# EAGLE library part LM66200DRLR (library LM66200)
The LM66200 is a dual ideal diode device with a voltage rating of 1.6 V to 5.5 V and a maximum current rating of 2.5 A per channel
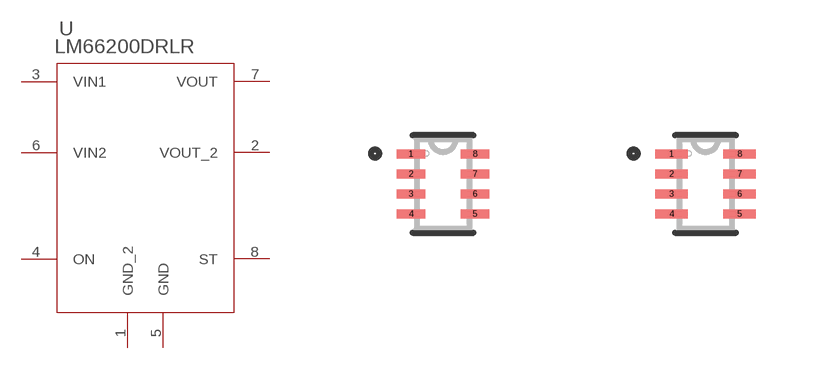
[diagram p0: symbol with the pads of SOT-5X3_DRL_TEX; footprints SOT-5X3_DRL_TEX, SOT-5X3_DRL_TEX-M]

Designator prefix U

## LM66200DRLR (COPYRIGHT: Copyright (C) 2023 Ultra Librarian. All rights reserved.; MANUFACTURER_PART_NUMBER: LM66200DRLR; MFR_NAME: Texas Instruments)  [SOT-5X3_DRL_TEX]
1  GND_2  pas
2  VOUT_2  pwr
3  VIN1  in
4  ON  in
5  GND  pas
6  VIN2  in
7  VOUT  out
8  ST  out

## LM66200DRLRSOT-5X3_DRL_TEX-M (COPYRIGHT: Copyright (C) 2023 Ultra Librarian. All rights reserved.; MANUFACTURER_PART_NUMBER: LM66200DRLR; MFR_NAME: Texas Instruments)  [SOT-5X3_DRL_TEX-M]
Pads as for SOT-5X3_DRL_TEX

## LM66200DRLRSOT-5X3_DRL_TEX-L (COPYRIGHT: Copyright (C) 2023 Ultra Librarian. All rights reserved.; MANUFACTURER_PART_NUMBER: LM66200DRLR; MFR_NAME: Texas Instruments)  [SOT-5X3_DRL_TEX-L]
Pads as for SOT-5X3_DRL_TEX

## Footprint SOT-5X3_DRL_TEX (pad centres in mm)
smd 0.711 x 0.229: 1 -0.8,0.75; 2 -0.8,0.25; 3 -0.8,-0.25; 4 -0.8,-0.75; 5 0.8,-0.75; 6 0.8,-0.25; 7 0.8,0.25; 8 0.8,0.75

## Footprint SOT-5X3_DRL_TEX-M (pad centres in mm)
smd 0.813 x 0.229: 1 -0.851,0.75; 2 -0.851,0.25; 3 -0.851,-0.25; 4 -0.851,-0.75; 5 0.851,-0.75; 6 0.851,-0.25; 7 0.851,0.25; 8 0.851,0.75

## Footprint SOT-5X3_DRL_TEX-L (pad centres in mm)
smd 0.61 x 0.229: 1 -0.749,0.75; 2 -0.749,0.25; 3 -0.749,-0.25; 4 -0.749,-0.75; 5 0.749,-0.75; 6 0.749,-0.25; 7 0.749,0.25; 8 0.749,0.75